# EAGLE library part CONN_FFC_2X26+25_SH (library GPLIB_CONN)
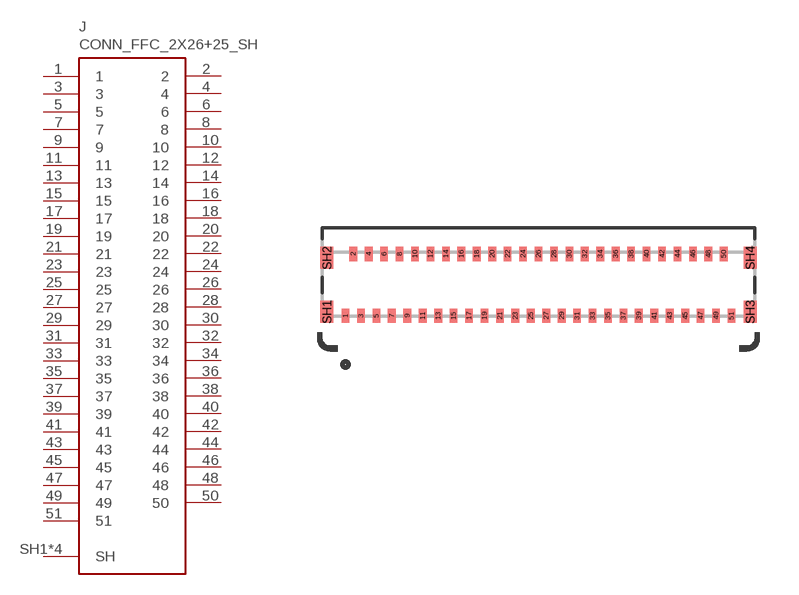
[diagram p21: symbol with the pads of CONN_FFC_2X26+25_0.6MM_SM_RA_IPEX_20982-051E-01; footprint CONN_FFC_2X26+25_0.6MM_SM_RA_IPEX_20982-051E-01]

Designator prefix J

## CONN_FFC_2X26+25_SH  [CONN_FFC_2X26+25_0.6MM_SM_RA_IPEX_20982-051E-01]
1  1  pas
2  2  pas
3  3  pas
4  4  pas
5  5  pas
6  6  pas
7  7  pas
8  8  pas
9  9  pas
10  10  pas
11  11  pas
12  12  pas
13  13  pas
14  14  pas
15  15  pas
16  16  pas
17  17  pas
18  18  pas
19  19  pas
20  20  pas
21  21  pas
22  22  pas
23  23  pas
24  24  pas
25  25  pas
26  26  pas
27  27  pas
28  28  pas
29  29  pas
30  30  pas
31  31  pas
32  32  pas
33  33  pas
34  34  pas
35  35  pas
36  36  pas
37  37  pas
38  38  pas
39  39  pas
40  40  pas
41  41  pas
42  42  pas
43  43  pas
44  44  pas
45  45  pas
46  46  pas
47  47  pas
48  48  pas
49  49  pas
50  50  pas
51  51  pas
SH1  SH  pas
SH2  SH  pas
SH3  SH  pas
SH4  SH  pas

## Footprint CONN_FFC_2X26+25_0.6MM_SM_RA_IPEX_20982-051E-01 (pad centres in mm)
smd 0.3 x 0.55: 1 -7.5,-1.2; 2 -7.2,1.2; 3 -6.9,-1.2; 4 -6.6,1.2; 5 -6.3,-1.2; 6 -6,1.2; 7 -5.7,-1.2; 8 -5.4,1.2; 9 -5.1,-1.2; 10 -4.8,1.2; 11 -4.5,-1.2; 12 -4.2,1.2; 13 -3.9,-1.2; 14 -3.6,1.2; 15 -3.3,-1.2; 16 -3,1.2; 17 -2.7,-1.2; 18 -2.4,1.2; 19 -2.1,-1.2; 20 -1.8,1.2; 21 -1.5,-1.2; 22 -1.2,1.2; 23 -0.9,-1.2; 24 -0.6,1.2; 25 -0.3,-1.2; 26 0,1.2; 27 0.3,-1.2; 28 0.6,1.2; 29 0.9,-1.2; 30 1.2,1.2; 31 1.5,-1.2; 32 1.8,1.2; 33 2.1,-1.2; 34 2.4,1.2; 35 2.7,-1.2; 36 3,1.2; 37 3.3,-1.2; 38 3.6,1.2; 39 3.9,-1.2; 40 4.2,1.2; 41 4.5,-1.2; 42 4.8,1.2; 43 5.1,-1.2; 44 5.4,1.2; 45 5.7,-1.2; 46 6,1.2; 47 6.3,-1.2; 48 6.6,1.2; 49 6.9,-1.2; 50 7.2,1.2; 51 7.5,-1.2
smd 0.5 x 0.85: SH1 -8.225,-1.05; SH2 -8.225,1.05; SH3 8.225,-1.05; SH4 8.225,1.05